# Altium footprint library PcbLib1.PcbLib: 42 footprints (part 3 of 3)
Each footprint in its own frame and in the unit in brackets; x right, y up, seen from the top. Pads: shape width x height; smd on the part's side, far side on the other; paste and mask are expansions set on the pad; w line width, h text height; cw(c..) or ccw(c..) is an arc to the next point about the centre after c.
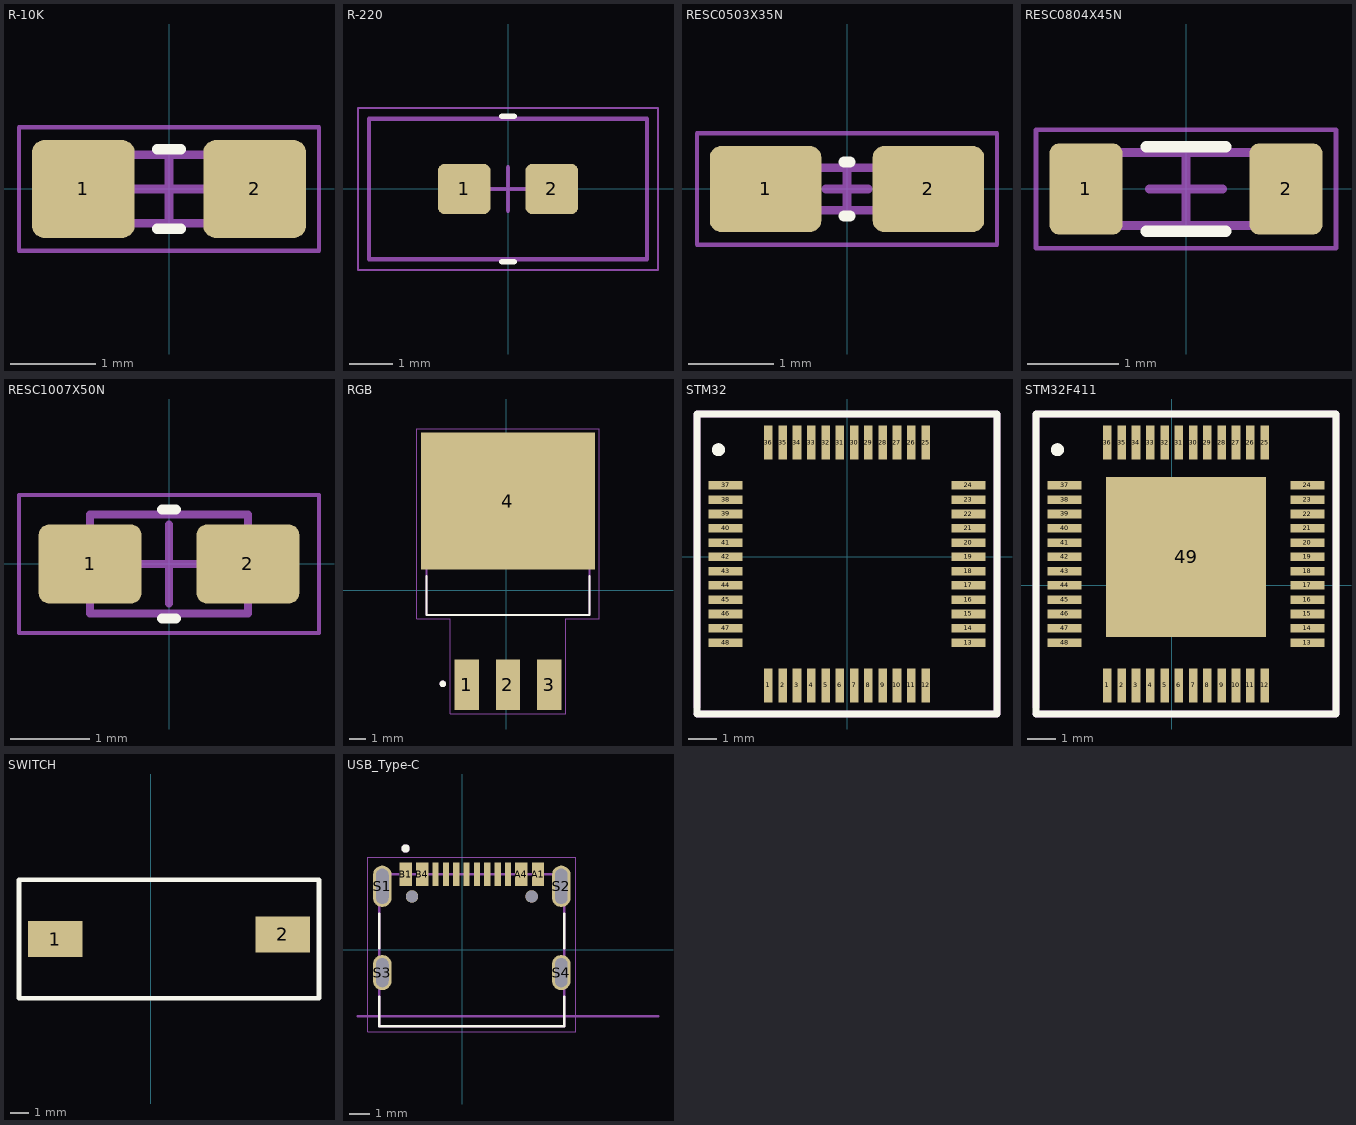
[diagram p2: the footprints below, top view; thin cyan lines are the x and y axes]

## R-10K [mm] "Chip Resistor, 2-Leads, Body 0.85x0.45mm, IPC Medium Density"
height 0.45
pads (2):
  rrect25% 1.2x1.14 smd: 1(-1,0) 2(1,0)
Top Overlay:
  lines w0.127: -0.136,-0.464 0.136,-0.464 ; -0.136,0.463 0.136,0.463
Top Assembly:
  lines w0.1: -0.8,-0.4 -0.8,0.4 0.8,0.4 0.8,-0.4 -0.8,-0.4
Top Designator:
  text ".Designator" at -7.618,-0.508 h1.52
Top Courtyard:
  lines w0.05: -1.75,-0.72 -1.75,0.72 1.75,0.72 1.75,-0.72 -1.75,-0.72
Top Component Center:
  lines w0.1: -0.4,0 0.4,0 ; 0,-0.4 0,0.4
3D body: height 0.45, standoff 0, extent -0.005,-0.225 0.005,0.225
3D body: height 0.45, standoff 0, extent -0.425,-0.225 0.005,0.225
3D body: height 0.45, standoff 0, extent -0.005,-0.225 0.425,0.225

## R-220 [mm] "Chip Resistor, 2-Leads, Body 3.22x1.70mm, IPC Medium Density"
height 0.55
pads (2):
  rrect25% 1.2x1.14 smd: 1(-1,0) 2(1,0)
Top Overlay:
  lines w0.127: -0.136,-1.664 0.136,-1.664 ; -0.136,1.663 0.136,1.663
Top Assembly:
  lines w0.1: -3.175,-1.6 3.175,-1.6 3.175,1.6 -3.175,1.6 -3.175,-1.6
Top Designator:
  text ".Designator" at -7.618,-0.508 h1.52
Top Courtyard:
  lines w0.05: -3.425,-1.85 3.425,-1.85 3.425,1.85 -3.425,1.85 -3.425,-1.85
Top Component Center:
  lines w0.1: -0.5,0 0.5,0 ; 0,-0.5 0,0.5
3D body: height 0.55, standoff 0, extent 1.182,-0.85 1.612,0.85
3D body: height 0.55, standoff 0, extent -1.613,-0.85 -1.182,0.85
3D body: height 0.55, standoff 0, extent -1.182,-0.85 1.182,0.85

## RESC0503X35N [mm] "Chip Resistor, 2-Leads, Body 0.53x0.28mm, IPC Medium Density"
height 0.35
pads (2):
  rrect25% 1.3x1 smd: 1(-0.95,0) 2(0.95,0)
Top Overlay:
  lines w0.127: -0.036,-0.314 0.036,-0.314 ; -0.036,0.313 0.036,0.313
Top Assembly:
  lines w0.1: -0.5,-0.25 -0.5,0.25 0.5,0.25 0.5,-0.25 -0.5,-0.25
Top Designator:
  text ".Designator" at 0,0.188 h1
Top Courtyard:
  lines w0.05: -1.75,-0.65 -1.75,0.65 1.75,0.65 1.75,-0.65 -1.75,-0.65
Top Component Center:
  lines w0.1: -0.25,0 0.25,0 ; 0,-0.25 0,0.25
3D body: height 0.35, standoff 0, extent -0.063,-0.138 0.062,0.137
3D body: height 0.35, standoff 0, extent -0.263,-0.138 -0.063,0.137
3D body: height 0.35, standoff 0, extent 0.062,-0.138 0.262,0.137

## RESC0804X45N [mm] "Chip Resistor, 2-Leads, Body 0.85x0.45mm, IPC Medium Density"
height 0.45
pads (2):
  rrect25% 0.8x1 smd: 1(-1.1,0) 2(1.1,0)
Top Overlay:
  lines w0.127: -0.437,-0.464 0.436,-0.464 ; -0.437,0.463 0.436,0.463
Top Assembly:
  lines w0.1: -0.8,-0.4 0.8,-0.4 0.8,0.4 -0.8,0.4 -0.8,-0.4
Top Designator:
  text ".Designator" at 0,0.188 h1
Top Courtyard:
  lines w0.05: -1.65,-0.65 1.65,-0.65 1.65,0.65 -1.65,0.65 -1.65,-0.65
Top Component Center:
  lines w0.1: -0.4,0 0.4,0 ; 0,-0.4 0,0.4
3D body: height 0.45, standoff 0, extent 0.225,-0.225 0.425,0.225
3D body: height 0.45, standoff 0, extent -0.425,-0.225 -0.225,0.225
3D body: height 0.45, standoff 0, extent -0.225,-0.225 0.225,0.225

## RESC1007X50N [mm] "Chip Resistor, 2-Leads, Body 1.05x0.68mm, IPC Medium Density"
height 0.5
pads (2):
  rrect25% 1.3x1 smd: 1(-1,0) 2(1,0)
Top Overlay:
  lines w0.127: -0.086,-0.689 0.086,-0.689 ; -0.086,0.689 0.086,0.689
Top Assembly:
  lines w0.1: -1,-0.625 1,-0.625 1,0.625 -1,0.625 -1,-0.625
Top Designator:
  text ".Designator" at 0,0.188 h1
Top Courtyard:
  lines w0.05: -1.9,-0.875 1.9,-0.875 1.9,0.875 -1.9,0.875 -1.9,-0.875
Top Component Center:
  lines w0.1: -0.5,0 0.5,0 ; 0,-0.5 0,0.5
3D body: height 0.5, standoff 0, extent 0.125,-0.337 0.525,0.337
3D body: height 0.5, standoff 0, extent -0.525,-0.337 -0.125,0.337
3D body: height 0.5, standoff 0, extent -0.125,-0.337 0.125,0.337

## RGB [mm]
pads (4):
  rect 1.5x3.1 smd: 1(-2.43,-5.787) 2(0.11,-5.787) 3(2.65,-5.787)
  rect 10.7x8.4 smd: 4(0.11,5.463)
Top Overlay:
  circle w0.2: c-3.89,-5.737 r0.1
  lines w0.127: -4.89,0.863 -4.89,-1.507 5.11,-1.507 5.11,0.863
Top 3D Body:
  circle w0.2: c-3.89,-5.737 r0.1
  lines w0.127: -4.89,-1.507 -4.89,9.093 5.11,9.093 5.11,-1.507 -4.89,-1.507
Top Courtyard:
  lines w0.05: -5.49,-1.757 -5.49,9.913 5.71,9.913 5.71,-1.757 3.65,-1.757 3.65,-7.587 -3.43,-7.587 -3.43,-1.757 -5.49,-1.757
3D body "step_temp.STEP": height 3.3, standoff 0, extent -4.895,-6.757 5.115,9.093

## STM32 [mm]
pads (48):
  rect 0.3x1.2 smd paste-2539.97: 1(-2.75,-4.5) 2(-2.25,-4.5) 3(-1.75,-4.5) 4(-1.25,-4.5) 5(-0.75,-4.5) 6(-0.25,-4.5) 7(0.25,-4.5) 8(0.75,-4.5) 9(1.25,-4.5) 10(1.75,-4.5) 11(2.25,-4.5) 12(2.75,-4.5) 25(2.75,4) 26(2.25,4) 27(1.75,4) 28(1.25,4) 29(0.75,4) 30(0.25,4) 31(-0.25,4) 32(-0.75,4) 33(-1.25,4) 34(-1.75,4) 35(-2.25,4) 36(-2.75,4)
  rect 1.2x0.3 smd paste-2539.97: 13(4.25,-3) 14(4.25,-2.5) 15(4.25,-2) 16(4.25,-1.5) 17(4.25,-1) 18(4.25,-0.5) 19(4.25,0) 20(4.25,0.5) 21(4.25,1) 22(4.25,1.5) 23(4.25,2) 24(4.25,2.5) 37(-4.25,2.5) 38(-4.25,2) 39(-4.25,1.5) 40(-4.25,1) 41(-4.25,0.5) 42(-4.25,0) 43(-4.25,-0.5) 44(-4.25,-1) 45(-4.25,-1.5) 46(-4.25,-2) 47(-4.25,-2.5) 48(-4.25,-3)
Top Overlay:
  circle w0.254: c-4.5,3.75 r0.1
  lines w0.254: -5.25,-5.5 -5,-5.5 -0.25,-5.5 5.25,-5.5 5.25,4.75 5.25,5 -5,5 -5.25,5 -5.25,-5.5
Mechanical 1:
  lines w0.254: -5.25,-5.5 5.25,-5.5 5.25,5 -5.25,5 -5.25,-5.25
Mechanical 29:
  text ".Designator" at -3.246,-0.738 h1.52
Top Designator:
  text ".Designator" at -4.185,-0.758 h1.52
3D body "LQFP48_STM.step": height 1.6, standoff 0, extent -4.597,-4.847 4.597,4.347

## STM32F411 [mm]
pads (49):
  rect 0.3x1.2 smd paste-2539.97: 1(-2.25,-3.5) 2(-1.75,-3.5) 3(-1.25,-3.5) 4(-0.75,-3.5) 5(-0.25,-3.5) 6(0.25,-3.5) 7(0.75,-3.5) 8(1.25,-3.5) 9(1.75,-3.5) 10(2.25,-3.5) 11(2.75,-3.5) 12(3.25,-3.5) 25(3.25,5) 26(2.75,5) 27(2.25,5) 28(1.75,5) 29(1.25,5) 30(0.75,5) 31(0.25,5) 32(-0.25,5) 33(-0.75,5) 34(-1.25,5) 35(-1.75,5) 36(-2.25,5)
  rect 1.2x0.3 smd paste-2539.97: 13(4.75,-2) 14(4.75,-1.5) 15(4.75,-1) 16(4.75,-0.5) 17(4.75,0) 18(4.75,0.5) 19(4.75,1) 20(4.75,1.5) 21(4.75,2) 22(4.75,2.5) 23(4.75,3) 24(4.75,3.5) 37(-3.75,3.5) 38(-3.75,3) 39(-3.75,2.5) 40(-3.75,2) 41(-3.75,1.5) 42(-3.75,1) 43(-3.75,0.5) 44(-3.75,0) 45(-3.75,-0.5) 46(-3.75,-1) 47(-3.75,-1.5) 48(-3.75,-2)
  rect 5.6x5.6 smd paste-4: 49(0.5,1)
Top Overlay:
  circle w0.254: c-4,4.75 r0.1
  lines w0.254: -4.75,-4.5 -4.75,6 -4.5,6 5.75,6 5.75,5.75 5.75,-4.5 0.25,-4.5 -4.5,-4.5 -4.75,-4.5
Mechanical 1:
  lines w0.254: -4.75,-4.5 5.75,-4.5 5.75,6 -4.75,6 -4.75,-4.25
Top Designator:
  text ".Designator" at -3.685,0.242 h1.52
3D body "LQFP48_STM.step": height 1.6, standoff 0, extent -4.097,-3.847 5.097,5.347

## SWITCH [mm]
pads (2):
  rect 3x2 smd paste-2539.97: 1(-5.25,-21) 2(7.25,-20.75)
Top Overlay:
  lines w0.254: -7.25,-24.25 -7.25,-17.75 -6.75,-17.75 9.25,-17.75 9.25,-24.25 -7.25,-24.25
3D body "SLW-116641-3A-RA-S-D.step": height 4.95, standoff -11.1, extent -5.25,-22.895 7.25,-18.605

## USB_Type-C [mm]
pads (18):
  rect 0.6x1.14 smd mask+0.05: A1(3.65,3.638) A4(2.85,3.638) B1(-2.75,3.638) B4(-1.95,3.638)
  rect 0.3x1.14 smd mask+0.05: A5(2.2,3.638) A6(1.2,3.638) A7(0.2,3.638) A8(-1.3,3.638) B5(-0.3,3.638) B6(0.7,3.638) B7(1.7,3.638) B8(-0.8,3.638)
  oval 0.9x2 hole 0.6 slot 1.7 at 90 deg: S1(-3.875,3.058) S2(4.775,3.058)
  oval 0.9x1.7 hole 0.6 slot 1.4 at 90 deg: S3(-3.875,-1.112) S4(4.775,-1.112)
  round 0.6 hole 0.6 unplated: ""(-2.44,2.568) ""(3.34,2.568)
Top Overlay:
  circle w0.2: c-2.75,4.888 r0.1
  lines w0.127: -4.02,-2.282 -4.02,-3.712 4.92,-3.712 4.92,-2.282 ; -4.02,0.058 -4.02,1.738 ; 4.92,0.058 4.92,1.738
Top Designator:
  text ".Designator" at -5.417,0.043 h1.52
Top 3D Body:
  circle w0.2: c-2.75,4.888 r0.1
  lines w0.127: -5.05,-3.222 9.45,-3.222 ; -4.02,-3.712 4.92,-3.712 4.92,3.638 -4.02,3.638 -4.02,-3.712
  text "PCB EDGE" at -4,-3 h0.61
Top Courtyard:
  lines w0.05: -4.575,-3.962 -4.575,4.458 5.475,4.458 5.475,-3.962 -4.575,-3.962
3D body "step_temp.STEP": height 3.31, standoff -0.99, extent -4.02,-3.712 4.92,4.193